# Altium schematic symbol library SMD Resistor Lib.SchLib: 10 symbols
Pins are listed as number, name and electrical type; pins without a type are passive.

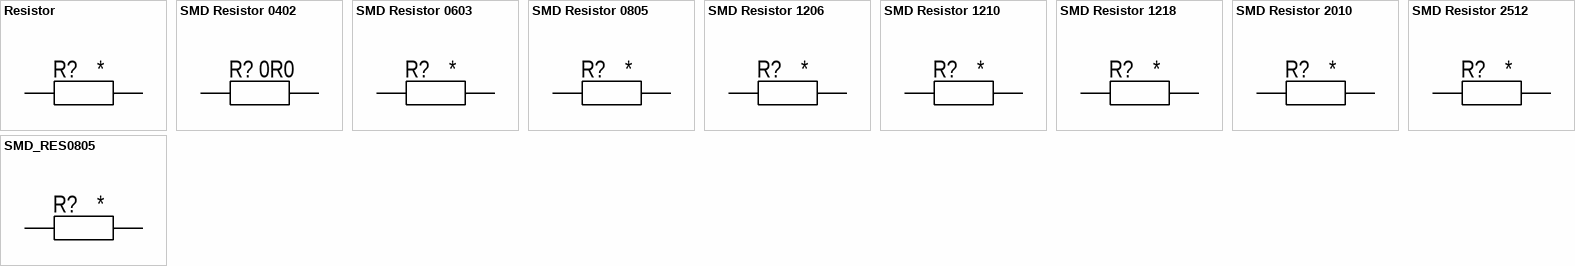
[diagram p0: symbols Resistor to SMD_RES0805]

## Resistor
designator R?
Tolerance: *; Value: *
pins: 1 "ResPin", 2 "ResPin"

## SMD Resistor 0402
designator R?, comment value 0R0  (hidden comment: SMD 0402 0R0±5%)
Surface Mount Resistor size 0402 (1*0.5mm) 0.0625W; Manufacture: Yageo; PartNumber: RC0402JR-070R0L; Tolerance: ±5%; Voltage: 50V; ID: R0000; Case: SMD 0402; ComponentLink1Description: GENERAL PURPOSE CHIP RESISTORS; ComponentLink1URL: http://www.yageo.com/documents/recent/PYu-RC_Group_51_RoHS_L_10.pdf; Footprint Path: SMD Resistor Pad Lib.PcbLib; Footprint Ref: 0402; Library Path: SMD Resistor Lib.SchLib; Library Ref: SMD Resistor 0402; Manufature: Yageo; Power Dissipation: 0.0625W; Power: 0.0625W
footprint 0402 (0402 Reflow Pad)
pins: 1 "ResPin", 2 "ResPin"

## SMD Resistor 0603
designator R?
Surface Mount Resistor size 0603 (1.6*0.8mm) 0.1W; Manufacture: Yageo; PartNumber: RC0603JR-07xxx; Tolerance: 5%; Case: 0603; ComponentLink1Description: GENERAL PURPOSE CHIP RESISTORS; ComponentLink1URL: http://www.yageo.com/documents/recent/PYu-RC_Group_51_RoHS_L_10.pdf; Value: *
footprint 0603 (0603 Reflow Pad)
pins: 1 "ResPin", 2 "ResPin"

## SMD Resistor 0805
designator R?
Surface Mount Resistor size 0805 (2.0*1.25mm) 0.125W; Manufacture: Yageo; PartNumber: RC0805JR-07xxx; Tolerance: 5%; Case: 0805; ComponentLink1Description: GENERAL PURPOSE CHIP RESISTORS; ComponentLink1URL: http://www.yageo.com/documents/recent/PYu-RC_Group_51_RoHS_L_10.pdf; Value: *
footprint 0805 (0805 Reflow Pad)
pins: 1 "ResPin", 2 "ResPin"

## SMD Resistor 1206
designator R?
Surface Mount Resistor size 1206 (3.1*1.6mm) 0.25W; Manufacture: Yageo; PartNumber: RC1206JR-07xxx; Tolerance: 5%; Case: 1206; ComponentLink1Description: GENERAL PURPOSE CHIP RESISTORS; ComponentLink1URL: http://www.yageo.com/documents/recent/PYu-RC_Group_51_RoHS_L_10.pdf; Value: *
footprint 1206 (1206 Reflow Pad)
pins: 1 "ResPin", 2 "ResPin"

## SMD Resistor 1210
designator R?
Surface Mount Resistor size 1210 (3.1*2.6mm) 0.5W; Manufacture: Yageo; PartNumber: RC1210JR-07xxx; Tolerance: 5%; Case: 1210; ComponentLink1Description: GENERAL PURPOSE CHIP RESISTORS; ComponentLink1URL: http://www.yageo.com/documents/recent/PYu-RC_Group_51_RoHS_L_10.pdf; Value: *
footprint 1210 (1210 Reflow Pad)
pins: 1 "ResPin", 2 "ResPin"

## SMD Resistor 1218
designator R?
Surface Mount Resistor size 1218 (3.1*4.6mm) 1.0W; Manufacture: Yageo; PartNumber: RC1218JR-07xxx; Tolerance: 5%; Case: 1218; ComponentLink1Description: GENERAL PURPOSE CHIP RESISTORS; ComponentLink1URL: http://www.yageo.com/documents/recent/PYu-RC_Group_51_RoHS_L_10.pdf; Value: *
footprint 1218 (1218 Reflow Pad)
pins: 1 "ResPin", 2 "ResPin"

## SMD Resistor 2010
designator R?
Surface Mount Resistor size 2010 (5.0*2.5mm) 0.75W; Manufacture: Yageo; PartNumber: RC2010JR-07xxx; Tolerance: 5%; Case: 2010; ComponentLink1Description: GENERAL PURPOSE CHIP RESISTORS; ComponentLink1URL: http://www.yageo.com/documents/recent/PYu-RC_Group_51_RoHS_L_10.pdf; Value: *
footprint 2010 (2010 Reflow Pad)
pins: 1 "ResPin", 2 "ResPin"

## SMD Resistor 2512
designator R?
Surface Mount Resistor size 2512 (6.35*3.1mm) 1.0W; Manufacture: Yageo; PartNumber: RC2512JR-07xxx; Tolerance: 5%; Case: 2512; ComponentLink1Description: GENERAL PURPOSE CHIP RESISTORS; ComponentLink1URL: http://www.yageo.com/documents/recent/PYu-RC_Group_51_RoHS_L_10.pdf; Value: *
footprint 2512 (2512 Reflow Pad)
pins: 1 "ResPin", 2 "ResPin"

## SMD_RES0805
designator R?
Surface Mount Resistor size 0805 (2.0*1.25mm) 0.125W; ComponentLink1Description: GENERAL PURPOSE CHIP RESISTORS; ComponentLink1URL: http://www.yageo.com/documents/recent/PYu-RC_Group_51_RoHS_L_10.pdf; Tolerance: *; Value: *
pins: 1 "ResPin", 2 "ResPin"